# EAGLE library part S7-1200_AC/DC/RELAIS (library e-sps)
SPS S7-1200 AC/DC/RELAIS Source: s71200_easy_book_de-DE_de-DE.pdf
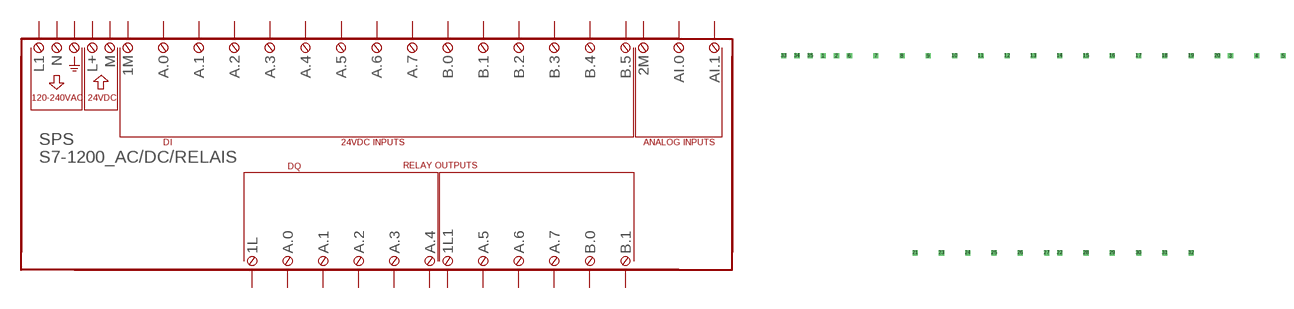
[diagram p2: symbol with the pads of S7-1200_AC/DC/RELAIS; footprint S7-1200_AC/DC/RELAIS]

Designator prefix SPS; gates VERSORGUNG=S7-1200_AC/DC/VERSORGUNG DI=S7-1200_DI-A8-B5 AI=S7-1200_AI-A23 DQ=S7-1200_DQA7-DQB1 RA1=S7_RAHMEN_LO .1=S7_RAHMEN_LU RA3=S7_RAHMEN_RO RA4=S7_RAHMEN_RU 24VDC=S7-1200_24VDC

## S7-1200_AC/DC/RELAIS  [S7-1200_AC/DC/RELAIS]
1  24VDC:L+  out
2  24VDC:M  out
3  AI:2M  pas
4  AI:AI.0  pas
5  AI:AI.1  pas
6  DI:1M  pas
7  DI:A.0  pas
8  DI:A.1  pas
9  DI:A.2  pas
10  DI:A.3  pas
11  DI:A.4  pas
12  DI:A.5  pas
13  DI:A.6  pas
14  DI:A.7  pas
15  DI:B.0  pas
16  DI:B.1  pas
17  DI:B.2  pas
18  DI:B.3  pas
19  DI:B.4  pas
20  DI:B.5  pas
21  DQ:1L  pas
22  DQ:1L1  pas
23  DQ:A.0  pas
24  DQ:A.1  pas
25  DQ:A.2  pas
26  DQ:A.3  pas
27  DQ:A.4  pas
28  DQ:A.5  pas
29  DQ:A.6  pas
30  DQ:A.7  pas
31  DQ:B.0  pas
32  DQ:B.1  pas
33  VERSORGUNG:L1  in
34  VERSORGUNG:N  in
35  VERSORGUNG:PE  in

## Footprint S7-1200_AC/DC/RELAIS (pad centres in mm)
Dummy
drill 0.5 pad 1 square: 1 -48.26,12.7; 2 -45.72,12.7; 3 30.48,12.7; 4 35.56,12.7; 5 40.64,12.7; 6 -43.18,12.7; 7 -38.1,12.7; 8 -33.02,12.7; 9 -27.94,12.7; 10 -22.86,12.7; 11 -17.78,12.7; 12 -12.7,12.7; 13 -7.62,12.7; 14 -2.54,12.7; 15 2.54,12.7; 16 7.62,12.7; 17 12.7,12.7; 18 17.78,12.7; 19 22.86,12.7; 20 27.94,12.7; 21 -30.48,-25.4; 22 -2.54,-25.4; 23 -25.4,-25.4; 24 -20.32,-25.4; 25 -15.24,-25.4; 26 -10.16,-25.4; 27 -5.08,-25.4; 28 2.54,-25.4; 29 7.62,-25.4; 30 12.7,-25.4; 31 17.78,-25.4; 32 22.86,-25.4; 33 -55.88,12.7; 34 -53.34,12.7; 35 -50.8,12.7